# EAGLE library part 1635-125 (library con-commcon)
Compact PCI Type AB 2mm HARD METRIC SOCKETS
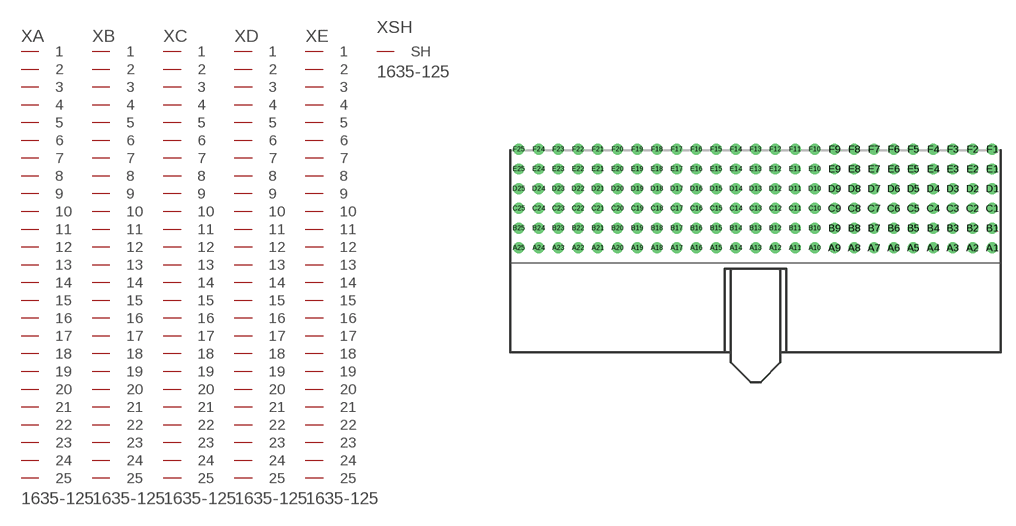
[diagram p17: symbol with the pads of 1635-125; footprint 1635-125]

Designator prefix X; gates A=PIN25 B=PIN25 C=PIN25 D=PIN25 E=PIN25 SH=SHIELD

## 1635-125 (OC_FARNELL: unknown; OC_NEWARK: unknown)  [1635-125]
A1  A:1  pas
A2  A:2  pas
A3  A:3  pas
A4  A:4  pas
A5  A:5  pas
A6  A:6  pas
A7  A:7  pas
A8  A:8  pas
A9  A:9  pas
A10  A:10  pas
A11  A:11  pas
A12  A:12  pas
A13  A:13  pas
A14  A:14  pas
A15  A:15  pas
A16  A:16  pas
A17  A:17  pas
A18  A:18  pas
A19  A:19  pas
A20  A:20  pas
A21  A:21  pas
A22  A:22  pas
A23  A:23  pas
A24  A:24  pas
A25  A:25  pas
B1  B:1  pas
B2  B:2  pas
B3  B:3  pas
B4  B:4  pas
B5  B:5  pas
B6  B:6  pas
B7  B:7  pas
B8  B:8  pas
B9  B:9  pas
B10  B:10  pas
B11  B:11  pas
B12  B:12  pas
B13  B:13  pas
B14  B:14  pas
B15  B:15  pas
B16  B:16  pas
B17  B:17  pas
B18  B:18  pas
B19  B:19  pas
B20  B:20  pas
B21  B:21  pas
B22  B:22  pas
B23  B:23  pas
B24  B:24  pas
B25  B:25  pas
C1  C:1  pas
C2  C:2  pas
C3  C:3  pas
C4  C:4  pas
C5  C:5  pas
C6  C:6  pas
C7  C:7  pas
C8  C:8  pas
C9  C:9  pas
C10  C:10  pas
C11  C:11  pas
C12  C:12  pas
C13  C:13  pas
C14  C:14  pas
C15  C:15  pas
C16  C:16  pas
C17  C:17  pas
C18  C:18  pas
C19  C:19  pas
C20  C:20  pas
C21  C:21  pas
C22  C:22  pas
C23  C:23  pas
C24  C:24  pas
C25  C:25  pas
D1  D:1  pas
D2  D:2  pas
D3  D:3  pas
D4  D:4  pas
D5  D:5  pas
D6  D:6  pas
D7  D:7  pas
D8  D:8  pas
D9  D:9  pas
D10  D:10  pas
D11  D:11  pas
D12  D:12  pas
D13  D:13  pas
D14  D:14  pas
D15  D:15  pas
D16  D:16  pas
D17  D:17  pas
D18  D:18  pas
D19  D:19  pas
D20  D:20  pas
D21  D:21  pas
D22  D:22  pas
D23  D:23  pas
D24  D:24  pas
D25  D:25  pas
E1  E:1  pas
E2  E:2  pas
E3  E:3  pas
E4  E:4  pas
E5  E:5  pas
E6  E:6  pas
E7  E:7  pas
E8  E:8  pas
E9  E:9  pas
E10  E:10  pas
E11  E:11  pas
E12  E:12  pas
E13  E:13  pas
E14  E:14  pas
E15  E:15  pas
E16  E:16  pas
E17  E:17  pas
E18  E:18  pas
E19  E:19  pas
E20  E:20  pas
E21  E:21  pas
E22  E:22  pas
E23  E:23  pas
E24  E:24  pas
E25  E:25  pas
F1  SH:SH  pas

## Footprint 1635-125 (pad centres in mm)
Compact PCI Type AB 2mm HARD METRIC SOCKETS
drill 0.6: A1 24,1.27; A2 22,1.27; A3 20,1.27; A4 18,1.27; A5 16,1.27; A6 14,1.27; A7 12,1.27; A8 10,1.27; A9 8,1.27; A10 6,1.27; A11 4,1.27; A12 2,1.27; A13 0,1.27; A14 -2,1.27; A15 -4,1.27; A16 -6,1.27; A17 -8,1.27; A18 -10,1.27; A19 -12,1.27; A20 -14,1.27; A21 -16,1.27; A22 -18,1.27; A23 -20,1.27; A24 -22,1.27; A25 -24,1.27; B1 24,3.27; B2 22,3.27; B3 20,3.27; B4 18,3.27; B5 16,3.27; B6 14,3.27; B7 12,3.27; B8 10,3.27; B9 8,3.27; B10 6,3.27; B11 4,3.27; B12 2,3.27; B13 0,3.27; B14 -2,3.27; B15 -4,3.27; B16 -6,3.27; B17 -8,3.27; B18 -10,3.27; B19 -12,3.27; B20 -14,3.27; B21 -16,3.27; B22 -18,3.27; B23 -20,3.27; B24 -22,3.27; B25 -24,3.27; C1 24,5.27; C2 22,5.27; C3 20,5.27; C4 18,5.27; C5 16,5.27; C6 14,5.27; C7 12,5.27; C8 10,5.27; C9 8,5.27; C10 6,5.27; C11 4,5.27; C12 2,5.27; C13 0,5.27; C14 -2,5.27; C15 -4,5.27; C16 -6,5.27; C17 -8,5.27; C18 -10,5.27; C19 -12,5.27; C20 -14,5.27; C21 -16,5.27; C22 -18,5.27; C23 -20,5.27; C24 -22,5.27; C25 -24,5.27; D1 24,7.27; D2 22,7.27; D3 20,7.27; D4 18,7.27; D5 16,7.27; D6 14,7.27; D7 12,7.27; D8 10,7.27; D9 8,7.27; D10 6,7.27; D11 4,7.27; D12 2,7.27; D13 0,7.27; D14 -2,7.27; D15 -4,7.27; D16 -6,7.27; D17 -8,7.27; D18 -10,7.27; D19 -12,7.27; D20 -14,7.27; D21 -16,7.27; D22 -18,7.27; D23 -20,7.27; D24 -22,7.27; D25 -24,7.27; E1 24,9.27; E2 22,9.27; E3 20,9.27; E4 18,9.27; E5 16,9.27; E6 14,9.27; E7 12,9.27; E8 10,9.27; E9 8,9.27; E10 6,9.27; E11 4,9.27; E12 2,9.27; E13 0,9.27; E14 -2,9.27; E15 -4,9.27; E16 -6,9.27; E17 -8,9.27; E18 -10,9.27; E19 -12,9.27; E20 -14,9.27; E21 -16,9.27; E22 -18,9.27; E23 -20,9.27; E24 -22,9.27; E25 -24,9.27; F1 24,11.27; F2 22,11.27; F3 20,11.27; F4 18,11.27; F5 16,11.27; F6 14,11.27; F7 12,11.27; F8 10,11.27; F9 8,11.27; F10 6,11.27; F11 4,11.27; F12 2,11.27; F13 0,11.27; F14 -2,11.27; F15 -4,11.27; F16 -6,11.27; F17 -8,11.27; F18 -10,11.27; F19 -12,11.27; F20 -14,11.27; F21 -16,11.27; F22 -18,11.27; F23 -20,11.27; F24 -22,11.27; F25 -24,11.27